# Altium schematic symbol library CON 20X2_Ribbon.SchLib: 1 symbol
Pins are listed as number, name and electrical type; pins without a type are passive.

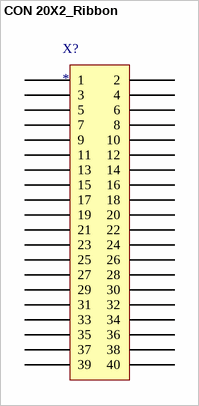
[diagram p0: symbol CON 20X2_Ribbon]

## CON 20X2_Ribbon
designator X?
40 Pin Ribbon Connector
footprint CON 20X2_Ribbon (40 Pin Ribbon Connector)
pins: 1, 2, 3, 4, 5, 6, 7, 8, 9, 10, 11, 12, 13, 14, 15, 16, 17, 18, 19, 20, 21, 22, 23, 24, 25, 26, 27, 28, 29, 30, 31, 32, 33, 34, 35, 36, 37, 38, 39, 40